# Altium footprint library QFN127P600-8N.PcbLib: 1 footprints
Each footprint in its own frame and in the unit in brackets; x right, y up, seen from the top. Pads: shape width x height; smd on the part's side, far side on the other; paste and mask are expansions set on the pad; w line width, h text height; cw(c..) or ccw(c..) is an arc to the next point about the centre after c.
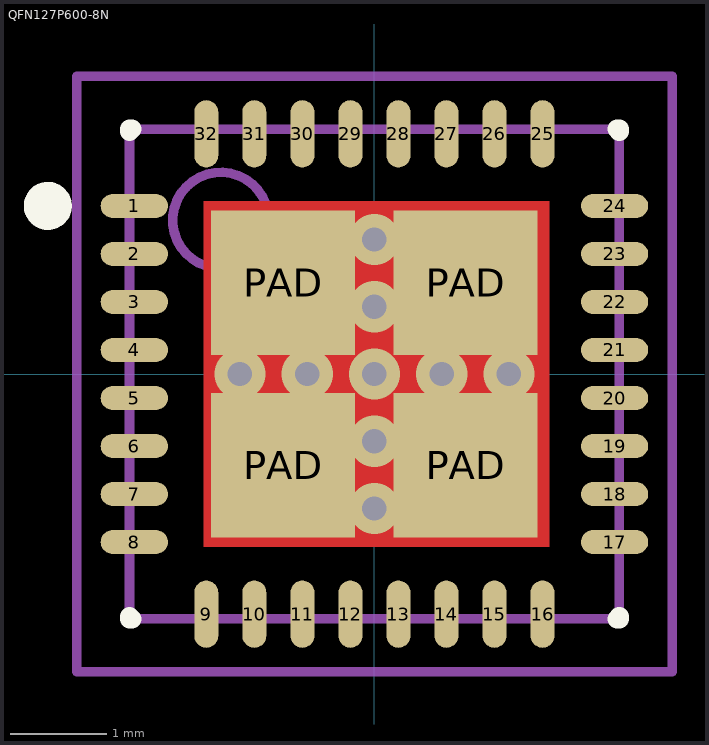
[diagram p0: the footprint, top view; thin cyan lines are the x and y axes]

## QFN127P600-8N [mm] "32-Lead Frame Chip Scale Package 5mmx5mm"
height 0.8
pads (36):
  oval 0.7x0.25 smd: 1(-2.5,1.75) 2(-2.5,1.25) 3(-2.5,0.75) 4(-2.5,0.25) 5(-2.5,-0.25) 6(-2.5,-0.75) 7(-2.5,-1.25) 8(-2.5,-1.75) 17(2.5,-1.75) 18(2.5,-1.25) 19(2.5,-0.75) 20(2.5,-0.25) 21(2.5,0.25) 22(2.5,0.75) 23(2.5,1.25) 24(2.5,1.75)
  oval 0.25x0.7 smd: 9(-1.75,-2.5) 10(-1.25,-2.5) 11(-0.75,-2.5) 12(-0.25,-2.5) 13(0.25,-2.5) 14(0.75,-2.5) 15(1.25,-2.5) 16(1.75,-2.5) 25(1.75,2.5) 26(1.25,2.5) 27(0.75,2.5) 28(0.25,2.5) 29(-0.25,2.5) 30(-0.75,2.5) 31(-1.25,2.5) 32(-1.75,2.5)
  rect 1.5x1.5 smd: PAD(-0.95,-0.95) PAD(-0.95,0.95) PAD(0.95,-0.95) PAD(0.95,0.95)
via 0,0 diameter 0.533 hole 0.254
via 0.7,0 diameter 0.533 hole 0.254
via 1.4,0 diameter 0.533 hole 0.254
via -1.4,0 diameter 0.533 hole 0.254
via -0.7,0 diameter 0.533 hole 0.254
via 0,-1.4 diameter 0.533 hole 0.254
via 0,1.4 diameter 0.533 hole 0.254
via 0,0.7 diameter 0.533 hole 0.254
via 0,-0.7 diameter 0.533 hole 0.254
Top Layer:
  region: -1.778,1.8 1.822,1.8 1.822,-1.8 -1.778,-1.8
Top Overlay:
  circle w0.25: c-3.4,1.75 r0.125
  lines w0.2: -2.55,-2.525 -2.55,-2.55 -2.525,-2.55 ; -2.55,2.525 -2.55,2.55 -2.525,2.55 ; 2.525,-2.55 2.55,-2.55 2.55,-2.525 ; 2.525,2.55 2.55,2.55 2.55,2.525
Mechanical 13:
  circle w0.1: c-1.6,1.6 r0.5
  lines w0.1: -2.55,-2.55 -2.55,2.55 2.55,2.55 2.55,-2.55 -2.55,-2.55
Mechanical 15:
  lines w0.1: -0.5,0 0.5,0 ; 0,-0.5 0,0.5 ; -3.1,-3.1 -3.1,3.1 3.1,3.1 3.1,-3.1 -3.1,-3.1
3D body "User Library-QFN32-1.STEP": height 0.9, standoff -0.03, extent -2.5,-2.5 2.5,2.5